# Altium schematic symbol library RE46C100S8F.SchLib: 1 symbol
Pins are listed as number, name and electrical type; pins without a type are passive.

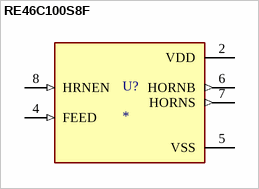
[diagram p0: symbol RE46C100S8F]

## RE46C100S8F
designator U?
MF: {'manufacturer': u'Microchip Technology'}; MP: RE46C100S8F; Value: *; Package: None; Price: None; Availability: Unavailable
footprint SOIC127P600X175-8N
pins: 2 VDD (power), 4 FEED (in), 5 VSS (power), 6 HORNB (out), 7 HORNS (out), 8 HRNEN (in)